# EAGLE library part ESP32 (library Biblioteca ESP32-S2 v36)
Espressif ESP32 WiFi-compatible SoC microcontroller. Bluetooth Low energy support (BLE, BT4.0, Bluetooth Smart) 28 GPIO pins Dual-core Tensilica LX6 microprocessor Hardware accelerated encryption (AES, SHA2, ECC, RSA-4096) 4MB Flash memory 520kB internal SRAM Datasheet <https://cdn.sparkfun.com/datasheets/IoT/esp32_datasheet_en.pdf> SparkFun Products: SparkFun ESP32 Thing <https://www.sparkfun.com/products/13907>
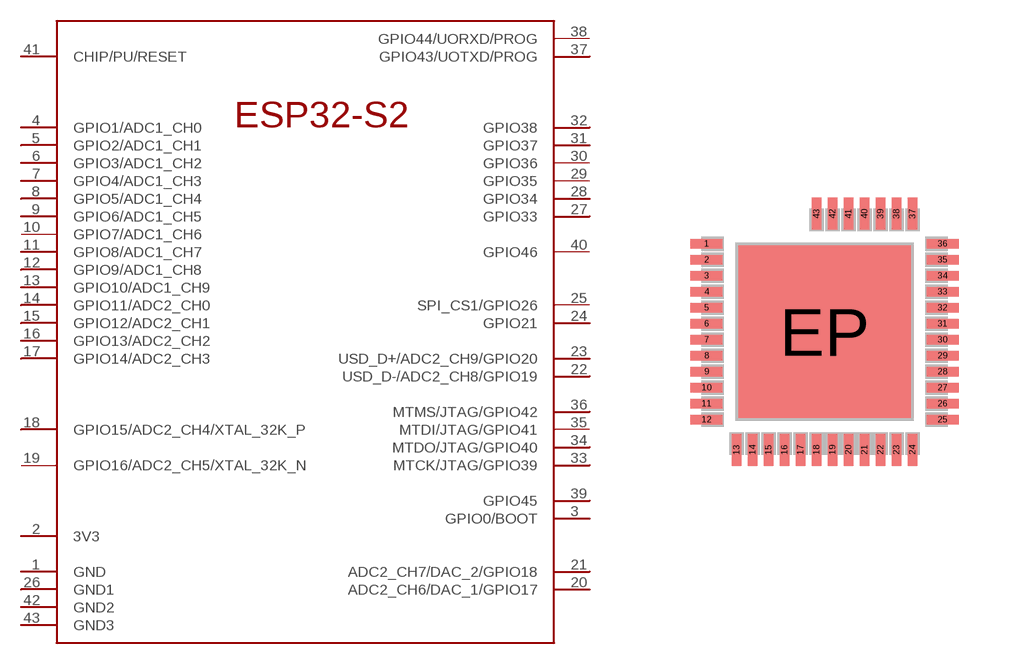
[diagram p0: symbol with the pads of QFN48-0.4MM; footprint QFN48-0.4MM]

Designator prefix U

## ESP32 (PROD_ID: IC-13338)  [QFN48-0.4MM]
1  GND  pwr
2  3V3  pwr
3  GPIO0/BOOT
4  GPIO1/ADC1_CH0
5  GPIO2/ADC1_CH1
6  GPIO3/ADC1_CH2
7  GPIO4/ADC1_CH3
8  GPIO5/ADC1_CH4
9  GPIO6/ADC1_CH5
10  GPIO7/ADC1_CH6
11  GPIO8/ADC1_CH7
12  GPIO9/ADC1_CH8
13  GPIO10/ADC1_CH9
14  GPIO11/ADC2_CH0
15  GPIO12/ADC2_CH1
16  GPIO13/ADC2_CH2
17  GPIO14/ADC2_CH3
18  GPIO15/ADC2_CH4/XTAL_32K_P
19  GPIO16/ADC2_CH5/XTAL_32K_N
20  ADC2_CH6/DAC_1/GPIO17
21  ADC2_CH7/DAC_2/GPIO18
22  USD_D-/ADC2_CH8/GPIO19
23  USD_D+/ADC2_CH9/GPIO20
24  GPIO21
25  SPI_CS1/GPIO26
26  GND1  pwr
27  GPIO33
28  GPIO34
29  GPIO35
30  GPIO36
31  GPIO37
32  GPIO38
33  MTCK/JTAG/GPIO39
34  MTDO/JTAG/GPIO40
35  MTDI/JTAG/GPIO41
36  MTMS/JTAG/GPIO42
37  GPIO43/UOTXD/PROG
38  GPIO44/UORXD/PROG
39  GPIO45
40  GPIO46
41  CHIP/PU/RESET
42  GND2  pwr
43  GND3  pwr

## Footprint QFN48-0.4MM (pad centres in mm)
QFN 48 Pin Specifications: Pin count: 48 Pin pitch: 0.4mm Datasheet referenced for footprint <https://cdn.sparkfun.com/datasheets/IoT/esp32_datasheet_en.pdf> Example device(s): ESP32
smd 0.8 x 0.23: 1 -2.95,2.2; 2 -2.95,1.8; 3 -2.95,1.4; 4 -2.95,1; 5 -2.95,0.6; 6 -2.95,0.2; 7 -2.95,-0.2; 8 -2.95,-0.6; 9 -2.95,-1; 10 -2.95,-1.4; 11 -2.95,-1.8; 12 -2.95,-2.2; 25 2.95,-2.2; 26 2.95,-1.8; 27 2.95,-1.4; 28 2.95,-1; 29 2.95,-0.6; 30 2.95,-0.2; 31 2.95,0.2; 32 2.95,0.6; 33 2.95,1; 34 2.95,1.4; 35 2.95,1.8; 36 2.95,2.2
smd 0.23 x 0.8: 13 -2.2,-2.95; 14 -1.8,-2.95; 15 -1.4,-2.95; 16 -1,-2.95; 17 -0.6,-2.95; 18 -0.2,-2.95; 19 0.2,-2.95; 20 0.6,-2.95; 21 1,-2.95; 22 1.4,-2.95; 23 1.8,-2.95; 24 2.2,-2.95; 37 2.2,2.95; 38 1.8,2.95; 39 1.4,2.95; 40 1,2.95; 41 0.6,2.95; 42 0.2,2.95; 43 -0.2,2.95
smd 4.3 x 4.3: EP 0,0